# EAGLE library part К176ИЕ18 (library К176)
К176ИЕ18 аналог ИЕ12 с открытым стоком выходов, и сигналом будильника выводы не совподают
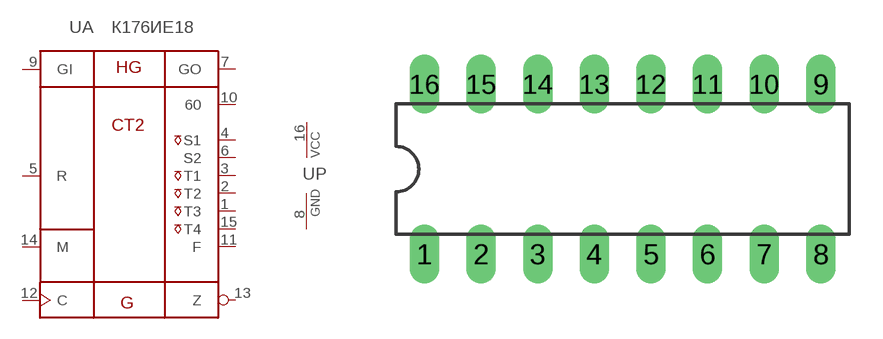
[diagram p1: symbol with the pads of DIL16; footprint DIL16]

Designator prefix -; gates A=К176ИЕ18 P=PWRN

## К176ИЕ18  [DIL16]
1  A:T3  out
2  A:T2  out
3  A:T1  out
4  A:S1  out
5  A:R  in
6  A:S2  out
7  A:GO  out
8  P:GND  pwr
9  A:GI  in
10  A:60  out
11  A:F  out
12  A:C  in
13  A:Z  out
14  A:M  in
15  A:T4  out
16  P:VCC  pwr

## Footprint DIL16 (pad centres in mm)
Dual In Line Package
drill 0.813 long: 1 -8.89,-3.81; 2 -6.35,-3.81; 3 -3.81,-3.81; 4 -1.27,-3.81; 5 1.27,-3.81; 6 3.81,-3.81; 7 6.35,-3.81; 8 8.89,-3.81; 9 8.89,3.81; 10 6.35,3.81; 11 3.81,3.81; 12 1.27,3.81; 13 -1.27,3.81; 14 -3.81,3.81; 15 -6.35,3.81; 16 -8.89,3.81